# Altium schematic symbol library R82EC1470DQ50K.SchLib: 2 symbols
Pins are listed as number, name and electrical type; pins without a type are passive.

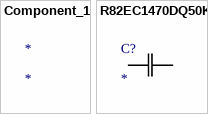
[diagram p0: symbols Component_1 to R82EC1470DQ50K]

## Component_1
designator *

## R82EC1470DQ50K
designator C?
No Description Available; Mfr_Name: Kemet; Type: Film Capacitor
footprint CAP_R82E-7P4X2P6-5P0_KEM
pins: 1, 2